# Altium schematic symbol library 171857-1002.SchLib: 1 symbol
Pins are listed as number, name and electrical type; pins without a type are passive.

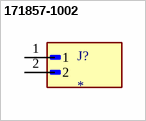
[diagram p0: symbol 171857-1002]

## 171857-1002
designator J?
MF: {'manufacturer': u'Molex'}; MP: 171857-1002; Package: None; Price: None; Value: *; Availability: Unavailable
footprint MOLEX_171857-1002
pins: 1, 2